# EAGLE library part BO-BME680 (library FaBo-Mems)
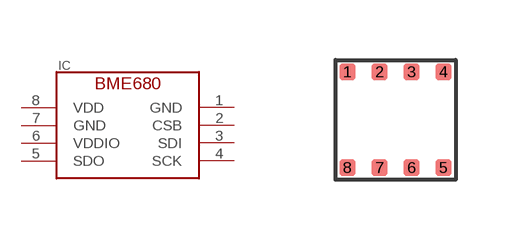
[diagram p30: symbol with the pads of BOSCH-BME680; footprint BOSCH-BME680]

Designator prefix IC

## BO-BME680  [BOSCH-BME680]
1  GND
2  CSB
3  SDI
4  SCK
5  SDO
6  VDDIO
7  GND
8  VDD

## Footprint BOSCH-BME680 (pad centres in mm)
smd 0.4 x 0.4: 1 -1.2,1.2; 2 -0.4,1.2; 3 0.4,1.2; 4 1.2,1.2; 5 1.2,-1.2; 6 0.4,-1.2; 7 -0.4,-1.2; 8 -1.2,-1.2